# EAGLE library part PTN78000W_EUS_5 (library SensorCape)
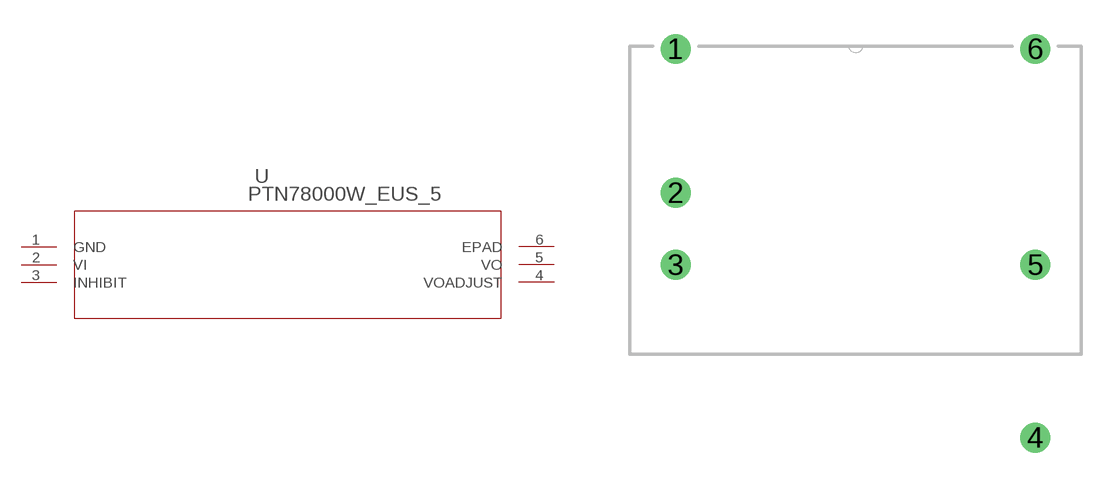
[diagram p28: symbol with the pads of EUS5; footprint EUS5]

Designator prefix U

## PTN78000W_EUS_5 (DATASHEETURL: http://www.ti.com/lit/gpn/PTN78000W; DESCRIPTION: 1.5-A, Wide-Input Adjustable Switching Regulator; FAMILY_NAME: NON-ISOLATED POL; GENERIC_PART_NUMBER: PTN78000W; INDUSTRY_STD_PKG_TYPE: Through-Hole Module; MANUFACTURER: Texas Instruments; MANUFACTURER_PART_NUMBER: ptn78000w_eus_5; PACKAGE_DESIGNATOR: EUS; PIN_COUNT: 5; VENDOR: Texas Instruments)  [EUS5]
1  GND  pwr
2  VI  in
3  INHIBIT  pas
4  VOADJUST  out
5  VO  out
6  EPAD  pas

## Footprint EUS5 (pad centres in mm)
drill 0.813: 1 -15.875,13.335; 2 -15.875,6.985; 3 -15.875,3.81; 4 0,-3.81; 5 0,3.81; 6 0,13.335